# Altium footprint library adafruit.PCBLIB: 630 footprints (part 32 of 40)
Each footprint in its own frame and in the unit in brackets; x right, y up, seen from the top. Pads: shape width x height; smd on the part's side, far side on the other; paste and mask are expansions set on the pad; w line width, h text height; cw(c..) or ccw(c..) is an arc to the next point about the centre after c.
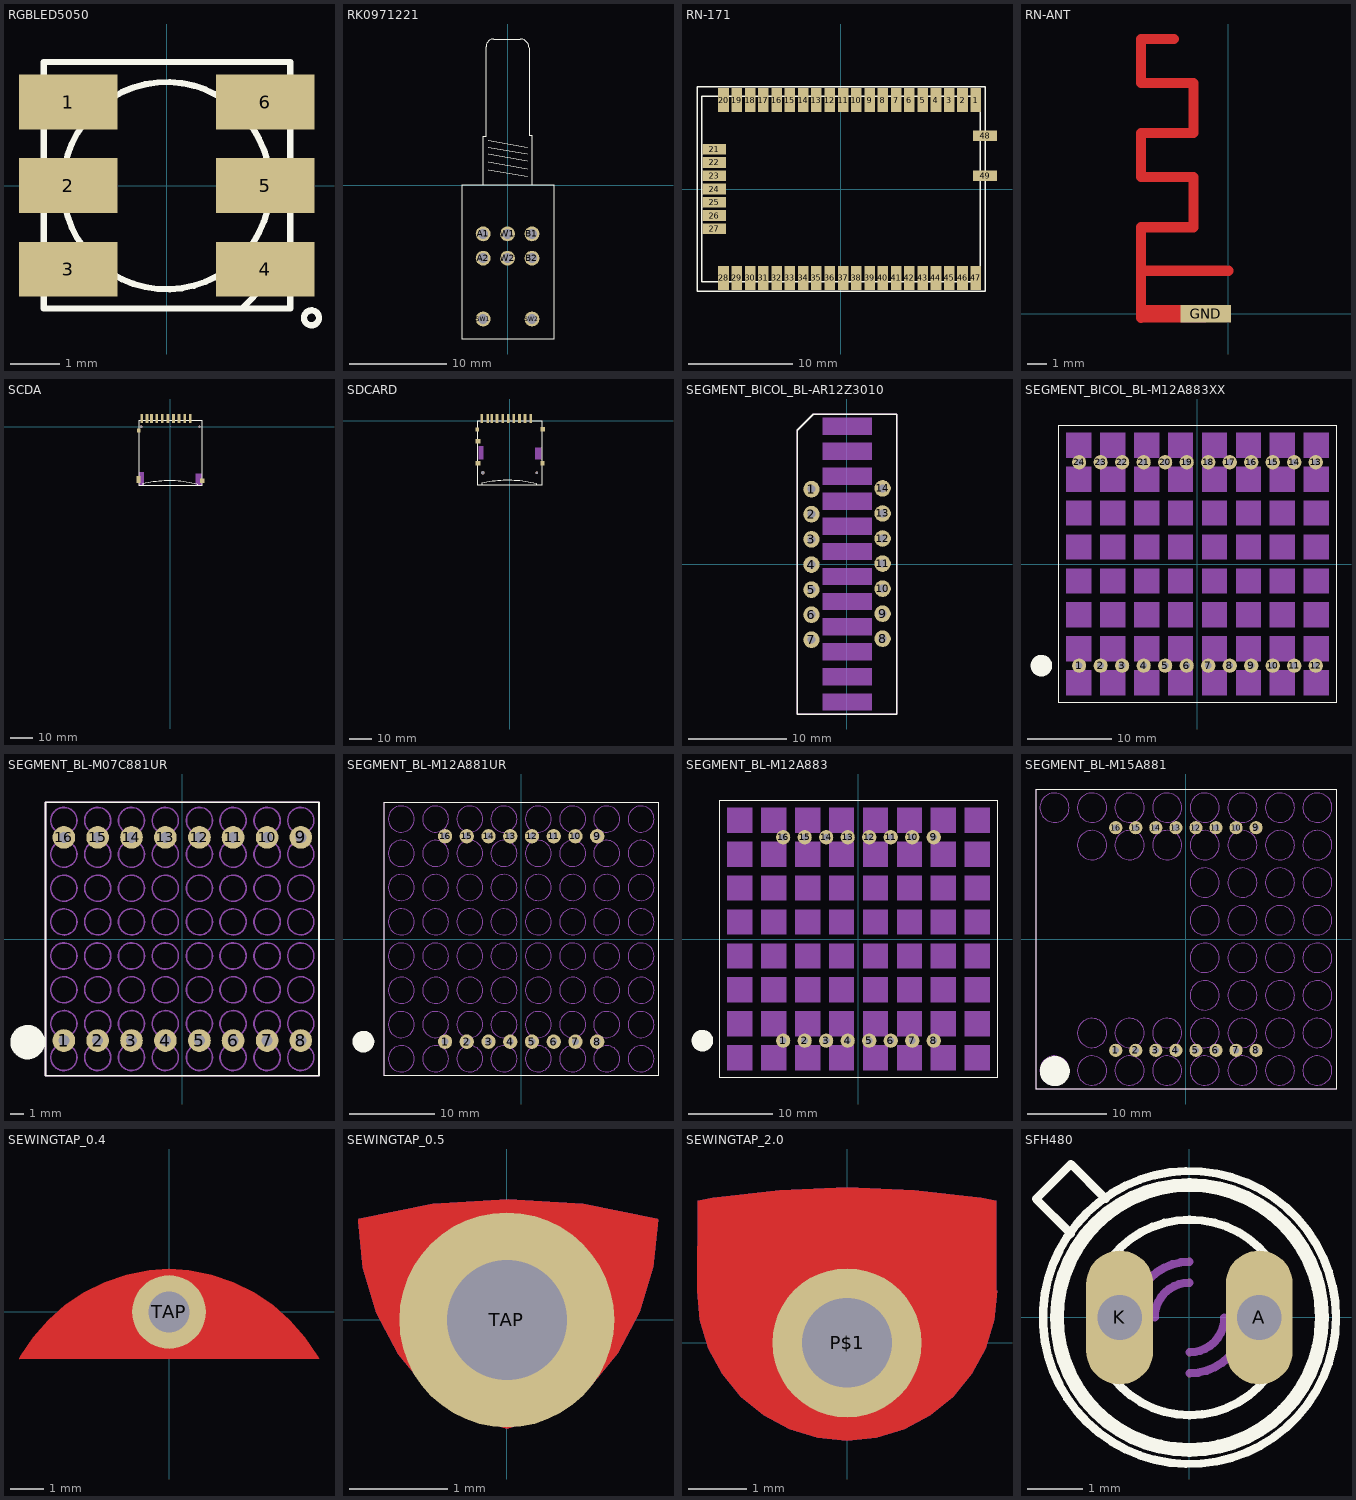
[diagram p31: the footprints below, top view; thin cyan lines are the x and y axes]

## RGBLED5050 [mil]
pads (6):
  rect 79x44 smd: 1(-78.74,67) 2(-78.74,0) 3(-78.74,-66.93) 4(79,-66.93) 5(79,0) 6(79,67)
Top Overlay:
  circle w5: c116,-105.83 r6
  circle w5: c0,0 r83
  lines w5: 60,-98.43 99,-98.43 99,-59.06 ; 60,-98.43 -98.43,-98.43 -98.43,99 99,99 99,-59.06 ; 60,-98.43 99,-59.06

## RK0971221 [mil]
pads (8):
  round 60 hole 40: A1(-98.43,-196.85) A2(-98.43,-295.28) B1(99,-196.85) B2(99,-295.28) SW1(-98.43,-541.34) SW2(99,-541.34) W1(0,-196.85) W2(0,-295.28)
Top Overlay:
  lines w5: -78.74,63 79,36 ; -78.74,95 79,67 ; -78.74,126 79,99 ; -78.74,154 79,126 ; -78.74,182 79,154 ; -98.43,0 99,0 ; -98.43,0 -185.04,0 -185.04,-622.05 189,-622.05 189,0 99,0 ; -98.43,0 -98.43,197 -86.61,197 -86.61,560 cw(c-55.74,560.13) -55.87,591 51,591 cw(c51,555) 87,555 87,201 99,201 99,0

## RN-171 [mil]
pads (49):
  rect 40x90 smd: 1(508,335) 2(458,335) 3(408,335) 4(358,335) 5(308,335) 6(258,335) 7(208,335) 8(158,335) 9(108,335) 10(58,335) 11(8,335) 12(-42.5,335) 13(-92.5,335) 14(-142.5,335) 15(-192.5,335) 16(-242.5,335) 17(-292.5,335) 18(-342.5,335) 19(-392.5,335) 20(-442.5,335) 28(-442.5,-335) 29(-392.5,-335) 30(-342.5,-335) 31(-292.5,-335) 32(-242.5,-335) 33(-192.5,-335) 34(-142.5,-335) 35(-92.5,-335) 36(-42.5,-335) 37(8,-335) 38(58,-335) 39(108,-335) 40(158,-335) 41(208,-335) 42(258,-335) 43(308,-335) 44(358,-335) 45(408,-335) 46(458,-335) 47(508,-335)
  rect 90x40 smd: 21(-477.5,150) 22(-477.5,100) 23(-477.5,50) 24(-477.5,0) 25(-477.5,-50) 26(-477.5,-100) 27(-477.5,-150) 48(543,200) 49(543,50)
Top Overlay:
  lines w5: -542.5,-385 543,-385 543,385 -542.5,385 -542.5,-385 ; -525,-350 525,-350 525,350 -525,350 -525,-350

## RN-ANT [mil]
pads (2):
  rect 1x1 smd: FEED(0,85)
  rect 100x35 smd: GND(-45,0)
Top Layer:
  lines w20: -173,-8 -173,85 ; -108,543 -173,543 -173,456 -69,456 -69,357 -173,357 -173,270 -69,270 -69,171 -173,171 -173,85 ; 0,85 -173,85
  lines w35: -165,0 -50,0

## SCDA [mil]
pads (15):
  round 40 hole 40: 1(-511.81,0) 1(512,0)
  rect 48x158 smd: 1(252,146) 2(154,146) 3(56,146) 4(-43.31,146) 5(-141.73,146) 6(-240.16,146) 7(-330.71,146) 8(-409.45,146) 9(351,146) 10(-503.94,146)
  rect 67x71 smd: 11(-555.12,-66.93)
  rect 67x123 smd: 12(-559.06,-925.2)
  rect 75x75 smd: 13(560,-948.82)
Top Overlay:
  lines w5: -488.19,-1035.43 473,-1035.43 ; -488.19,-1035.43 -551.18,-1035.43 -551.18,111 556,111 556,-1035.43 473,-1035.43 ; -488.19,-1035.43 -488.19,-1003.94 cw(c-23.93,-3002.34) 473,-1011.81 473,-1035.43
Mechanical 27:
  rectangle: -551.18,-1035.43 -460.63,-795.28
  rectangle: 445,-1035.43 556,-818.9
  region: 0,0 10,0 10,10 0,10

## SDCARD [mil]
pads (17):
  round 60 hole 60: 1(-472.44,-917.72)
  rect 48x158 smd: 1(268,36) 2(170,36) 3(71,36) 4(-27.56,36) 5(-122.05,36) 6(-224.41,36) 7(-318.9,36) 8(-385.83,36) 9(367,36) CD(-492.13,36)
  round 40 hole 40: 1(473,-917.72)
  rect 80x80 smd: COM(-559.06,-366.14) WP(-559.06,-748.03)
  rect 67x71 smd: MT1(-570.87,-153.94)
  rect 75x75 smd: MT2(579,-153.94) MT3(575,-748.43)
Top Overlay:
  lines w5: -496.06,-1134.25 465,-1134.25 ; -496.06,-1134.25 -559.06,-1134.25 -559.06,-0.39 563,-0.39 563,-1134.25 465,-1134.25 ; -496.06,-1134.25 -496.06,-1102.76 cw(c-31.87,-3100.9) 465,-1110.63 465,-1134.25
Mechanical 27:
  rectangle: -551.18,-685.43 -460.63,-445.28
  rectangle: 445,-685.43 556,-468.9
  region: 0,0 10,0 10,10 0,10

## SEGMENT_BICOL_BL-AR12Z3010 [mil]
pads (14):
  round 66 hole 32: 1(-141.73,299) 2(-141.73,199) 3(-141.73,99) 4(-141.73,-1.97) 5(-141.73,-101.97) 6(-141.73,-201.97) 7(-141.73,-301.97) 8(142,-298.03) 9(142,-198.03) 10(142,-98.03) 11(142,2) 12(142,102) 13(142,202) 14(142,302)
Top Overlay:
  lines w5: -198.82,-598.43 199,-598.43 199,599 -134.06,599 -198.82,535 -198.82,-598.43
Mechanical 16:
  rectangle: -98.43,16 99,85
  rectangle: -98.43,116 99,185
  rectangle: -98.43,216 99,285
  rectangle: -98.43,316 99,385
  rectangle: -98.43,416 99,485
  rectangle: -98.43,516 99,585
  rectangle: -98.43,-84.25 99,-15.75
  rectangle: -98.43,-184.25 99,-115.75
  rectangle: -98.43,-284.25 99,-215.75
  rectangle: -98.43,-384.25 99,-315.75
  rectangle: -98.43,-484.25 99,-415.75
  rectangle: -98.43,-584.25 99,-515.75
  lines w5: -198.82,-598.43 199,-598.43 199,599 -134.06,599 -198.82,535 -198.82,-598.43
  text "A" at 225,525 h77.5
  text "B" at 225,425 h77.5
  text "C" at 225,325 h77.5
  text "D" at 225,225 h77.5
  text "E" at 225,125 h77.5
  text "F" at 225,25 h77.5
  text "G" at 225,-75 h77.5
  text "H" at 225,-175 h77.5
  text "I" at 225,-275 h77.5
  text "J" at 225,-375 h77.5
  text "K" at 225,-475 h77.5
  text "L" at 225,-575 h77.5

## SEGMENT_BICOL_BL-M12A883XX [mil]
pads (24):
  round 66 hole 32: 1(-550,-472.44) 2(-450,-472.44) 3(-350,-472.44) 4(-250,-472.44) 5(-150,-472.44) 6(-50,-472.44) 7(50,-472.44) 8(150,-472.44) 9(250,-472.44) 10(350,-472.44) 11(450,-472.44) 12(550,-472.44) 13(550,473) 14(450,473) 15(350,473) 16(250,473) 17(150,473) 18(50,473) 19(-50,473) 20(-150,473) 21(-250,473) 22(-350,473) 23(-450,473) 24(-550,473)
Top Overlay:
  circle w50: c-725.59,-472.44 r25
  lines w5: -643.7,-643.7 644,-643.7 644,644 -643.7,644 -643.7,-643.7
Mechanical 16:
  rectangle: -610.24,493 -492.13,611
  rectangle: -452.76,493 -334.65,611
  rectangle: -295.28,493 -177.17,611
  rectangle: -137.8,493 -19.68,611
  rectangle: 20,493 138,611
  rectangle: 178,493 296,611
  rectangle: 335,493 453,611
  rectangle: 493,493 611,611
  rectangle: 493,335 611,453
  rectangle: 335,335 453,453
  rectangle: 178,335 296,453
  rectangle: 20,335 138,453
  rectangle: -137.8,335 -19.68,453
  rectangle: -295.28,335 -177.17,453
  rectangle: -610.24,335 -492.13,453
  rectangle: -452.76,335 -334.65,453
  rectangle: -610.24,178 -492.13,296
  rectangle: -452.76,178 -334.65,296
  rectangle: -295.28,178 -177.17,296
  rectangle: -137.8,178 -19.68,296
  rectangle: 20,178 138,296
  rectangle: 178,178 296,296
  rectangle: 335,178 453,296
  rectangle: 493,178 611,296
  rectangle: 493,20 611,138
  rectangle: 493,-137.8 611,-19.68
  rectangle: 335,-137.8 453,-19.68
  rectangle: 335,20 453,138
  rectangle: 178,20 296,138
  rectangle: 20,20 138,138
  rectangle: -137.8,20 -19.68,138
  rectangle: -295.28,20 -177.17,138
  rectangle: -452.76,20 -334.65,138
  rectangle: -610.24,20 -492.13,138
  rectangle: -610.24,-137.8 -492.13,-19.68
  rectangle: -452.76,-137.8 -334.65,-19.68
  rectangle: -295.28,-137.8 -177.17,-19.68
  rectangle: -137.8,-137.8 -19.68,-19.68
  rectangle: 20,-137.8 138,-19.68
  rectangle: 178,-137.8 296,-19.68
  rectangle: 493,-295.28 611,-177.17
  rectangle: 335,-295.28 453,-177.17
  rectangle: -610.24,-295.28 -492.13,-177.17
  rectangle: -452.76,-295.28 -334.65,-177.17
  rectangle: -295.28,-295.28 -177.17,-177.17
  rectangle: -137.8,-295.28 -19.68,-177.17
  rectangle: 20,-295.28 138,-177.17
  rectangle: 178,-295.28 296,-177.17
  rectangle: 493,-452.76 611,-334.65
  rectangle: 335,-452.76 453,-334.65
  rectangle: -610.24,-452.76 -492.13,-334.65
  rectangle: -452.76,-452.76 -334.65,-334.65
  rectangle: -295.28,-452.76 -177.17,-334.65
  rectangle: -137.8,-452.76 -19.68,-334.65
  rectangle: 20,-452.76 138,-334.65
  rectangle: 178,-452.76 296,-334.65
  rectangle: 493,-610.24 611,-492.13
  rectangle: 335,-610.24 453,-492.13
  rectangle: -610.24,-610.24 -492.13,-492.13
  rectangle: -452.76,-610.24 -334.65,-492.13
  rectangle: -295.28,-610.24 -177.17,-492.13
  rectangle: -137.8,-610.24 -19.68,-492.13
  rectangle: 20,-610.24 138,-492.13
  rectangle: 178,-610.24 296,-492.13
  lines w5: -643.7,-643.7 644,-643.7 644,644 -643.7,644 -643.7,-643.7

## SEGMENT_BL-M07C881UR [mil]
pads (16):
  round 66 hole 32: 1(-344.49,-295.28) 2(-246.06,-295.28) 3(-147.64,-295.28) 4(-49.21,-295.28) 5(50,-295.28) 6(148,-295.28) 7(247,-295.28) 8(345,-295.28) 9(345,296) 10(247,296) 11(148,296) 12(50,296) 13(-49.21,296) 14(-147.64,296) 15(-246.06,296) 16(-344.49,296)
Top Overlay:
  circle w50: c-450,-300 r25
  lines w5: -397.64,-397.64 398,-397.64 398,398 -397.64,398 -397.64,-397.64
Mechanical 2:
  text "C" at -393.7,443 h77.5
  text "R" at -457.09,394 h77.5
  text "1" at -344.49,443 h77.5
  text "2" at -246.06,443 h77.5
  text "3" at -147.64,443 h77.5
  text "4" at -49.21,443 h77.5
  text "5" at 50,443 h77.5
  text "6" at 148,443 h77.5
  text "7" at 247,443 h77.5
  text "8" at 345,443 h77.5
  text "1" at -457.09,320 h77.5
  text "2" at -457.09,222 h77.5
  text "3" at -457.09,124 h77.5
  text "4" at -457.09,25 h77.5
  text "5" at -457.09,-73.82 h77.5
  text "6" at -457.09,-172.24 h77.5
  text "7" at -457.09,-270.67 h77.5
  text "8" at -457.09,-369.09 h77.5
Mechanical 16:
  circle w5: c-344.49,345 r38
  circle w5: c-246.06,345 r38
  circle w5: c-147.64,345 r38
  circle w5: c-49.21,345 r38
  circle w5: c50,345 r38
  circle w5: c148,345 r38
  circle w5: c247,345 r38
  circle w5: c345,345 r38
  circle w5: c-344.49,247 r38
  circle w5: c-246.06,247 r38
  circle w5: c-147.64,247 r38
  circle w5: c-49.21,247 r38
  circle w5: c50,247 r38
  circle w5: c148,247 r38
  circle w5: c247,247 r38
  circle w5: c345,247 r38
  circle w5: c-344.49,148 r38
  circle w5: c-246.06,148 r38
  circle w5: c-147.64,148 r38
  circle w5: c-49.21,148 r38
  circle w5: c50,148 r38
  circle w5: c148,148 r38
  circle w5: c247,148 r38
  circle w5: c345,148 r38
  circle w5: c-344.49,50 r38
  circle w5: c-246.06,50 r38
  circle w5: c-147.64,50 r38
  circle w5: c-49.21,50 r38
  circle w5: c50,50 r38
  circle w5: c148,50 r38
  circle w5: c247,50 r38
  circle w5: c345,50 r38
  circle w5: c-344.49,-49.21 r38
  circle w5: c-246.06,-49.21 r38
  circle w5: c-147.64,-49.21 r38
  circle w5: c-49.21,-49.21 r38
  circle w5: c50,-49.21 r38
  circle w5: c148,-49.21 r38
  circle w5: c247,-49.21 r38
  circle w5: c345,-49.21 r38
  circle w5: c-344.49,-147.64 r38
  circle w5: c-246.06,-147.64 r38
  circle w5: c-147.64,-147.64 r38
  circle w5: c-49.21,-147.64 r38
  circle w5: c50,-147.64 r38
  circle w5: c148,-147.64 r38
  circle w5: c247,-147.64 r38
  circle w5: c345,-147.64 r38
  circle w5: c-344.49,-246.06 r38
  circle w5: c-246.06,-246.06 r38
  circle w5: c-147.64,-246.06 r38
  circle w5: c-49.21,-246.06 r38
  circle w5: c50,-246.06 r38
  circle w5: c148,-246.06 r38
  circle w5: c247,-246.06 r38
  circle w5: c345,-246.06 r38
  circle w5: c-344.49,-344.49 r38
  circle w5: c-246.06,-344.49 r38
  circle w5: c-147.64,-344.49 r38
  circle w5: c-49.21,-344.49 r38
  circle w5: c50,-344.49 r38
  circle w5: c148,-344.49 r38
  circle w5: c247,-344.49 r38
  circle w5: c345,-344.49 r38
  lines w5: -397.64,-397.64 398,-397.64 398,398 -397.64,398 -397.64,-397.64

## SEGMENT_BL-M12A881UR [mil]
pads (16):
  round 66 hole 32: 1(-350,-472.44) 2(-250,-472.44) 3(-150,-472.44) 4(-50,-472.44) 5(50,-472.44) 6(150,-472.44) 7(250,-472.44) 8(350,-472.44) 9(350,473) 10(250,473) 11(150,473) 12(50,473) 13(-50,473) 14(-150,473) 15(-250,473) 16(-350,473)
Top Overlay:
  circle w50: c-725.59,-472.44 r25
  lines w5: -629.92,-629.92 630,-629.92 630,630 -629.92,630 -629.92,-629.92
Mechanical 16:
  circle w5: c-551.18,552 r60
  circle w5: c-393.7,552 r60
  circle w5: c-236.22,552 r60
  circle w5: c-78.74,552 r60
  circle w5: c79,552 r60
  circle w5: c237,552 r60
  circle w5: c394,552 r60
  circle w5: c552,552 r60
  circle w5: c-551.18,394 r60
  circle w5: c-393.7,394 r60
  circle w5: c-236.22,394 r60
  circle w5: c-78.74,394 r60
  circle w5: c79,394 r60
  circle w5: c237,394 r60
  circle w5: c394,394 r60
  circle w5: c552,394 r60
  circle w5: c-551.18,237 r60
  circle w5: c-393.7,237 r60
  circle w5: c-236.22,237 r60
  circle w5: c-78.74,237 r60
  circle w5: c79,237 r60
  circle w5: c237,237 r60
  circle w5: c394,237 r60
  circle w5: c552,237 r60
  circle w5: c-551.18,79 r60
  circle w5: c-393.7,79 r60
  circle w5: c-236.22,79 r60
  circle w5: c-78.74,79 r60
  circle w5: c79,79 r60
  circle w5: c237,79 r60
  circle w5: c394,79 r60
  circle w5: c552,79 r60
  circle w5: c-551.18,-78.74 r60
  circle w5: c-393.7,-78.74 r60
  circle w5: c-236.22,-78.74 r60
  circle w5: c-78.74,-78.74 r60
  circle w5: c79,-78.74 r60
  circle w5: c237,-78.74 r60
  circle w5: c394,-78.74 r60
  circle w5: c552,-78.74 r60
  circle w5: c-551.18,-236.22 r60
  circle w5: c-393.7,-236.22 r60
  circle w5: c-236.22,-236.22 r60
  circle w5: c-78.74,-236.22 r60
  circle w5: c79,-236.22 r60
  circle w5: c237,-236.22 r60
  circle w5: c394,-236.22 r60
  circle w5: c552,-236.22 r60
  circle w5: c-551.18,-393.7 r60
  circle w5: c-393.7,-393.7 r60
  circle w5: c-236.22,-393.7 r60
  circle w5: c-78.74,-393.7 r60
  circle w5: c79,-393.7 r60
  circle w5: c237,-393.7 r60
  circle w5: c394,-393.7 r60
  circle w5: c552,-393.7 r60
  circle w5: c-551.18,-551.18 r60
  circle w5: c-393.7,-551.18 r60
  circle w5: c-236.22,-551.18 r60
  circle w5: c-78.74,-551.18 r60
  circle w5: c79,-551.18 r60
  circle w5: c237,-551.18 r60
  circle w5: c394,-551.18 r60
  circle w5: c552,-551.18 r60
  lines w5: -629.92,-629.92 630,-629.92 630,630 -629.92,630 -629.92,-629.92

## SEGMENT_BL-M12A883 [mil]
pads (16):
  round 66 hole 32: 1(-350,-472.44) 2(-250,-472.44) 3(-150,-472.44) 4(-50,-472.44) 5(50,-472.44) 6(150,-472.44) 7(250,-472.44) 8(350,-472.44) 9(350,473) 10(250,473) 11(150,473) 12(50,473) 13(-50,473) 14(-150,473) 15(-250,473) 16(-350,473)
Top Overlay:
  circle w50: c-725.59,-472.44 r25
  lines w5: -643.7,-643.7 644,-643.7 644,644 -643.7,644 -643.7,-643.7
Mechanical 16:
  rectangle: -610.24,493 -492.13,611
  rectangle: -452.76,493 -334.65,611
  rectangle: -295.28,493 -177.17,611
  rectangle: -137.8,493 -19.68,611
  rectangle: 20,493 138,611
  rectangle: 178,493 296,611
  rectangle: 335,493 453,611
  rectangle: 493,493 611,611
  rectangle: 493,335 611,453
  rectangle: 335,335 453,453
  rectangle: 178,335 296,453
  rectangle: 20,335 138,453
  rectangle: -137.8,335 -19.68,453
  rectangle: -295.28,335 -177.17,453
  rectangle: -610.24,335 -492.13,453
  rectangle: -452.76,335 -334.65,453
  rectangle: -610.24,178 -492.13,296
  rectangle: -452.76,178 -334.65,296
  rectangle: -295.28,178 -177.17,296
  rectangle: -137.8,178 -19.68,296
  rectangle: 20,178 138,296
  rectangle: 178,178 296,296
  rectangle: 335,178 453,296
  rectangle: 493,178 611,296
  rectangle: 493,20 611,138
  rectangle: 493,-137.8 611,-19.68
  rectangle: 335,-137.8 453,-19.68
  rectangle: 335,20 453,138
  rectangle: 178,20 296,138
  rectangle: 20,20 138,138
  rectangle: -137.8,20 -19.68,138
  rectangle: -295.28,20 -177.17,138
  rectangle: -452.76,20 -334.65,138
  rectangle: -610.24,20 -492.13,138
  rectangle: -610.24,-137.8 -492.13,-19.68
  rectangle: -452.76,-137.8 -334.65,-19.68
  rectangle: -295.28,-137.8 -177.17,-19.68
  rectangle: -137.8,-137.8 -19.68,-19.68
  rectangle: 20,-137.8 138,-19.68
  rectangle: 178,-137.8 296,-19.68
  rectangle: 493,-295.28 611,-177.17
  rectangle: 335,-295.28 453,-177.17
  rectangle: -610.24,-295.28 -492.13,-177.17
  rectangle: -452.76,-295.28 -334.65,-177.17
  rectangle: -295.28,-295.28 -177.17,-177.17
  rectangle: -137.8,-295.28 -19.68,-177.17
  rectangle: 20,-295.28 138,-177.17
  rectangle: 178,-295.28 296,-177.17
  rectangle: 493,-452.76 611,-334.65
  rectangle: 335,-452.76 453,-334.65
  rectangle: -610.24,-452.76 -492.13,-334.65
  rectangle: -452.76,-452.76 -334.65,-334.65
  rectangle: -295.28,-452.76 -177.17,-334.65
  rectangle: -137.8,-452.76 -19.68,-334.65
  rectangle: 20,-452.76 138,-334.65
  rectangle: 178,-452.76 296,-334.65
  rectangle: 493,-610.24 611,-492.13
  rectangle: 335,-610.24 453,-492.13
  rectangle: -610.24,-610.24 -492.13,-492.13
  rectangle: -452.76,-610.24 -334.65,-492.13
  rectangle: -295.28,-610.24 -177.17,-492.13
  rectangle: -137.8,-610.24 -19.68,-492.13
  rectangle: 20,-610.24 138,-492.13
  rectangle: 178,-610.24 296,-492.13
  lines w5: -643.7,-643.7 644,-643.7 644,644 -643.7,644 -643.7,-643.7

## SEGMENT_BL-M15A881 [mil]
pads (16):
  round 66 hole 32: 1(-350,-555.12) 2(-250,-555.12) 3(-150,-555.12) 4(-50,-555.12) 5(50,-555.12) 6(150,-555.12) 7(250,-555.12) 8(350,-555.12) 9(350,556) 10(250,556) 11(150,556) 12(50,556) 13(-50,556) 14(-150,556) 15(-250,556) 16(-350,556)
Top Overlay:
  circle w100: c-654.33,-658.66 r25
  lines w5: -748.03,-748.03 749,-748.03 749,749 -748.03,749 -748.03,-748.03
Mechanical 16:
  circle w5: c-281.1,469 r73
  circle w5: c-93.7,469 r73
  circle w5: c94,469 r73
  circle w5: c282,469 r73
  circle w5: c469,469 r73
  circle w5: c-468.5,469 r73
  circle w5: c-281.1,656 r73
  circle w5: c-93.7,656 r73
  circle w5: c94,656 r73
  circle w5: c282,656 r73
  circle w5: c469,656 r73
  circle w5: c-468.5,656 r73
  circle w5: c-655.91,656 r73
  circle w5: c94,282 r73
  circle w5: c282,282 r73
  circle w5: c469,282 r73
  circle w5: c94,94 r73
  circle w5: c282,94 r73
  circle w5: c469,94 r73
  circle w5: c94,-93.7 r73
  circle w5: c282,-93.7 r73
  circle w5: c469,-93.7 r73
  circle w5: c94,-281.1 r73
  circle w5: c282,-281.1 r73
  circle w5: c469,-281.1 r73
  circle w5: c-281.1,-468.5 r73
  circle w5: c-93.7,-468.5 r73
  circle w5: c94,-468.5 r73
  circle w5: c282,-468.5 r73
  circle w5: c469,-468.5 r73
  circle w5: c-468.5,-468.5 r73
  circle w5: c-281.1,-655.91 r73
  circle w5: c-93.7,-655.91 r73
  circle w5: c94,-655.91 r73
  circle w5: c282,-655.91 r73
  circle w5: c469,-655.91 r73
  circle w5: c-468.5,-655.91 r73
  circle w5: c-655.91,-655.91 r73
  circle w5: c656,-93.7 r73
  circle w5: c656,94 r73
  circle w5: c656,282 r73
  circle w5: c656,469 r73
  circle w5: c656,656 r73
  circle w5: c656,-281.1 r73
  circle w5: c656,-468.5 r73
  circle w5: c656,-655.91 r73
  lines w5: -748.03,-748.03 749,-748.03 749,749 -748.03,749 -748.03,-748.03

## SEWINGTAP_0.4 [mil]
pads (1):
  round 86 hole 48: TAP(0,0)
Top Layer:
  region: -175,-55 175.21,-54.88 173.67,-51.76 158.81,-29.53 141.18,-9.42 121.07,8.22 98.83,23.07 74.85,34.9 49.52,43.5 23.29,48.72 0,50.24 -23.29,48.72 -49.52,43.5 -74.85,34.9 -98.83,23.07 -121.07,8.22 -141.18,-9.42 -158.81,-29.53 -173.67,-51.76 -175.21,-54.88
Top Solder:
  region: -175,-55 175.21,-54.88 173.67,-51.76 158.81,-29.53 141.18,-9.42 121.07,8.22 98.83,23.07 74.85,34.9 49.52,43.5 23.29,48.72 0,50.24 -23.29,48.72 -49.52,43.5 -74.85,34.9 -98.83,23.07 -121.07,8.22 -141.18,-9.42 -158.81,-29.53 -173.67,-51.76 -175.21,-54.88

## SEWINGTAP_0.5 [mil]
pads (1):
  round 86 hole 48: TAP(0,0)
Top Layer:
  region: 60.13,40.47 60.08,40.49 30.54,46.37 0.47,48.34 -29.59,46.37 -59.14,40.49 -59.18,40.47 -59.47,40 -59.52,39.48 -57.68,20.8 -52.23,2.83 -43.38,-13.73 -31.79,-27.85 -31.53,-27.6 -24.33,-33.5 -12.52,-39.81 -0.06,-43.6 0.06,-43.63 0.13,-43.62 13.11,-39.68 25.07,-33.29 32.02,-27.59 32.32,-27.88 32.35,-27.87 44.28,-13.32 53.16,3.28 58.62,21.28 60.46,40
Bottom Layer:
  region: 60.13,40.47 60.08,40.49 30.54,46.37 0.47,48.34 -29.59,46.37 -59.14,40.49 -59.18,40.47 -59.47,40 -59.52,39.48 -57.68,20.8 -52.23,2.83 -43.38,-13.73 -31.79,-27.85 -31.53,-27.6 -24.33,-33.5 -12.52,-39.81 -0.06,-43.6 0.06,-43.63 0.13,-43.62 13.11,-39.68 25.07,-33.29 32.02,-27.59 32.32,-27.88 32.35,-27.87 44.28,-13.32 53.16,3.28 58.62,21.28 60.46,40
Top Solder:
  region: 60.13,40.47 60.08,40.49 30.54,46.37 0.47,48.34 -29.59,46.37 -59.14,40.49 -59.18,40.47 -59.47,40 -59.52,39.48 -57.68,20.8 -52.23,2.83 -43.38,-13.73 -31.79,-27.85 -31.53,-27.6 -24.33,-33.5 -12.52,-39.81 -0.06,-43.6 0.06,-43.63 0.13,-43.62 13.11,-39.68 25.07,-33.29 32.02,-27.59 32.32,-27.88 32.35,-27.87 44.28,-13.32 53.16,3.28 58.62,21.28 60.46,40
Bottom Solder:
  region: 60.13,40.47 60.08,40.49 30.54,46.37 0.47,48.34 -29.59,46.37 -59.14,40.49 -59.18,40.47 -59.47,40 -59.52,39.48 -57.68,20.8 -52.23,2.83 -43.38,-13.73 -31.79,-27.85 -31.53,-27.6 -24.33,-33.5 -12.52,-39.81 -0.06,-43.6 0.06,-43.63 0.13,-43.62 13.11,-39.68 25.07,-33.29 32.02,-27.59 32.32,-27.88 32.35,-27.87 44.28,-13.32 53.16,3.28 58.62,21.28 60.46,40

## SEWINGTAP_2.0 [mil]
pads (1):
  round 100 hole 60: P$1(0,0)
Top Layer:
  region: 100.02,95.13 90.09,97.11 45.18,102.42 0,104.2 -45.18,102.42 -90.09,97.11 -100.02,95.13 -100,95 -100.48,35 -100.48,34.98 -98.55,15.38 -92.84,-3.46 -83.55,-20.83 -71.06,-36.06 -55.83,-48.55 -38.46,-57.84 -19.62,-63.55 -0.02,-65.48 0,-65.48 0.02,-65.48 19.62,-63.55 38.46,-57.84 55.83,-48.55 71.06,-36.06 83.55,-20.83 92.84,-3.46 98.55,15.38 100.48,34.98 100.48,35 100,35
Bottom Layer:
  region: 100.02,95.13 90.09,97.11 45.18,102.42 0,104.2 -45.18,102.42 -90.09,97.11 -100.02,95.13 -100,95 -100.48,35 -100.48,34.98 -98.55,15.38 -92.84,-3.46 -83.55,-20.83 -71.06,-36.06 -55.83,-48.55 -38.46,-57.84 -19.62,-63.55 -0.02,-65.48 0,-65.48 0.02,-65.48 19.62,-63.55 38.46,-57.84 55.83,-48.55 71.06,-36.06 83.55,-20.83 92.84,-3.46 98.55,15.38 100.48,34.98 100.48,35 100,35
Top Solder:
  region: 100.02,95.13 90.09,97.11 45.18,102.42 0,104.2 -45.18,102.42 -90.09,97.11 -100.02,95.13 -100,95 -100.48,35 -100.48,34.98 -98.55,15.38 -92.84,-3.46 -83.55,-20.83 -71.06,-36.06 -55.83,-48.55 -38.46,-57.84 -19.62,-63.55 -0.02,-65.48 0,-65.48 0.02,-65.48 19.62,-63.55 38.46,-57.84 55.83,-48.55 71.06,-36.06 83.55,-20.83 92.84,-3.46 98.55,15.38 100.48,34.98 100.48,35 100,35
Bottom Solder:
  region: 100.02,95.13 90.09,97.11 45.18,102.42 0,104.2 -45.18,102.42 -90.09,97.11 -100.02,95.13 -100,95 -100.48,35 -100.48,34.98 -98.55,15.38 -92.84,-3.46 -83.55,-20.83 -71.06,-36.06 -55.83,-48.55 -38.46,-57.84 -19.62,-63.55 -0.02,-65.48 0,-65.48 0.02,-65.48 19.62,-63.55 38.46,-57.84 55.83,-48.55 71.06,-36.06 83.55,-20.83 92.84,-3.46 98.55,15.38 100.48,34.98 100.48,35 100,35

## SFH480 [mil]
pads (2):
  oval 48x96 hole 32: A(50,0) K(-50,0)
Top Overlay:
  circle w6: c0,0 r105
  circle w10: c0,0 r95
  lines w6: -85,60 -110,85 -85,110 -60,85 ; -60.46,-35.27 ccw(c0,0) 0,-70 ccw(c0.27,0.47) 61,-35.27 ; -60.46,36 cw(c-0.63,0.36) 0,70 cw(c0.9,-0.1) 61,36
Mechanical 16:
  lines w6: -59.61,-36.68 cw(c0,0) -70,0 cw(c0.72,0.21) -59.06,38 ; -40,0 cw(c0,0) 0,40 ; -25,0 cw(c0,0) 0,25 ; 0,-40 ccw(c0,0) 40,0 ; 0,-25 ccw(c0,0) 25,0 ; 60,-37.58 ccw(c0.47,-1.62) 70,0 ccw(c-0.36,0.83) 60,37